# Altium footprint library IR-Sensor.PcbLib: 24 footprints (part 1 of 2)
Each footprint in its own frame and in the unit in brackets; x right, y up, seen from the top. Pads: shape width x height; smd on the part's side, far side on the other; paste and mask are expansions set on the pad; w line width, h text height; cw(c..) or ccw(c..) is an arc to the next point about the centre after c.
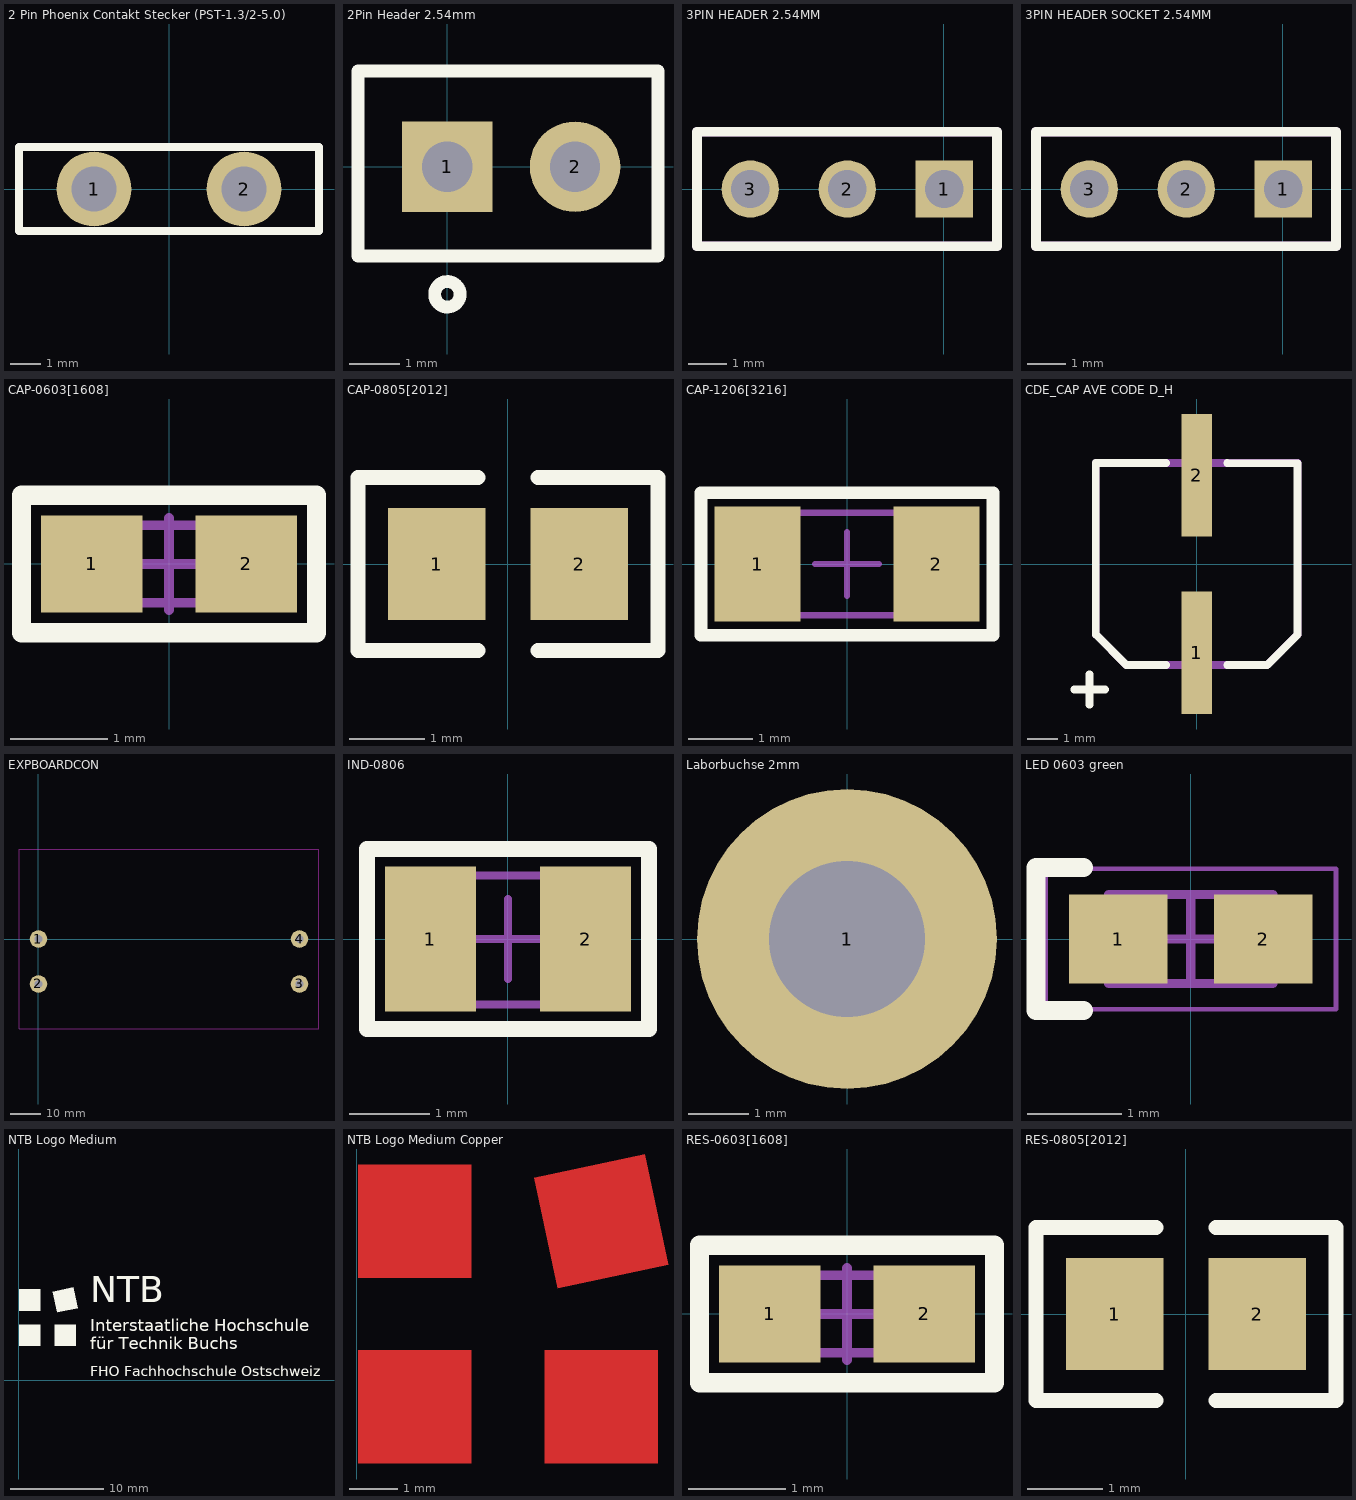
[diagram p0: the footprints below, top view; thin cyan lines are the x and y axes]

## 2 Pin Phoenix Contakt Stecker (PST-1.3/2-5.0) [mm]
pads (2):
  round 2.5 hole 1.5: 1(-2.5,0) 2(2.5,0)
Top Overlay:
  lines w0.254: -5,-1.4 -5,1.4 5,1.4 5,-1.4 -5,-1.4
3D body "1933189.stp": height 9.52, standoff -3.48, extent -5,-1.403 5,1.397
3D body "1805517.stp": height 12.12, standoff 0.42, extent -5.08,-10.591 4.92,2.209

## 2Pin Header 2.54mm [mm]
pads (2):
  rect 1.8x1.8 hole 1: 1(0,0)
  round 1.8 hole 1: 2(2.54,0)
Top Overlay:
  circle w0.254: c0,-2.54 r0.254
  lines w0.254: -1.778,-1.778 -1.778,1.905 4.191,1.905 4.191,-1.778 -1.778,-1.778
3D body "User Library-Header_Male_2Pin.STEP": height 8.54, standoff -3, extent -1.27,-1.245 3.81,1.245

## 3PIN HEADER 2.54MM [mm]
pads (3):
  rect 1.5x1.5 hole 1 paste-0.002 mask+0.07: 1(0.02,0)
  round 1.5 hole 1 paste-0.002 mask+0.07: 2(-2.52,0) 3(-5.06,0)
Top Overlay:
  lines w0.254: -6.457,-1.5 1.4,-1.5 1.4,1.5 -6.457,1.5 -6.457,-1.5
Mechanical 13:
  lines w0.254: -6.457,-1.5 1.4,-1.5 1.4,1.5 -6.457,1.5 -6.457,-1.5
3D body "HTSW-103-07-G-S.stp": height 8.38, standoff -2.54, extent -6.33,-1.244 1.29,1.245

## 3PIN HEADER SOCKET 2.54MM [mm]
pads (3):
  rect 1.5x1.5 hole 1 paste-0.002 mask+0.07: 1(0.02,0)
  round 1.5 hole 1 paste-0.002 mask+0.07: 2(-2.52,0) 3(-5.06,0)
Top Overlay:
  lines w0.254: -6.457,-1.5 -6.457,1.5 1.4,1.5 1.4,-1.5 -6.457,-1.5
Mechanical 13:
  lines w0.254: -6.457,-1.5 -6.457,1.5 1.4,1.5 1.4,-1.5 -6.457,-1.5
3D body "3Pin Buchsenleiste.stp": height 3.8, standoff -3.57, extent -6.33,-1.27 1.29,1.27

## CAP-0603[1608] [mm]
pads (2):
  rect 1.05x1 smd: 1(-0.8,0) 2(0.8,0)
Top Overlay:
  lines w0.2: -1.524,-0.711 1.524,-0.711 1.524,0.711 -1.524,0.711 -1.524,-0.711
Mechanical 13:
  lines w0.1: -0.8,-0.4 0.8,-0.4 0.8,0.4 -0.8,0.4 -0.8,-0.4
Mechanical 15:
  lines w0.05: -1.55,-0.75 1.55,-0.75 1.55,0.75 -1.55,0.75 -1.55,-0.75
  lines w0.1: -0.475,0 0.475,0 ; 0,-0.475 0,0.475
3D body "CAPC1608X95N EIA 0603.step": height 0.95, standoff 0, extent -0.8,-0.4 0.8,0.4

## CAP-0805[2012] [mm]
pads (2):
  rect 1.3x1.5 smd: 1(-0.95,0) 2(0.95,0)
Top Overlay:
  lines w0.2: -0.4,-1.15 -2,-1.15 -2,1.15 -0.4,1.15 ; 0.4,-1.15 2,-1.15 2,1.15 0.4,1.15
3D body "CAP0805.step": height 0.6, standoff 0, extent -1,-0.625 1,0.625

## CAP-1206[3216] [mm]
pads (2):
  rect 1.35x1.8 smd: 1(-1.4,0) 2(1.4,0)
Top Overlay:
  lines w0.2: -2.286,-1.118 2.286,-1.118 2.286,1.118 -2.286,1.118 -2.286,-1.118
Mechanical 13:
  lines w0.1: -1.6,-0.8 1.6,-0.8 1.6,0.8 -1.6,0.8 -1.6,-0.8
Mechanical 15:
  lines w0.05: -2.35,-1.15 2.35,-1.15 2.35,1.15 -2.35,1.15 -2.35,-1.15
  lines w0.1: -0.5,0 0.5,0 ; 0,-0.5 0,0.5
3D body "CAPC3216X180N EIA 1206.step": height 1.8, standoff 0, extent -1.6,-0.8 1.6,0.8

## CDE_CAP AVE CODE D_H [mm]
pads (2):
  rect 1x4 smd paste-0.002 mask+0.07: 1(0,-2.9) 2(0,2.9)
Top Overlay:
  lines w0.254: -4,-4.1 -3,-4.1 ; -3.5,-4.6 -3.5,-4.35 -3.5,-3.85 -3.5,-3.6 ; -1,-3.3 -2.3,-3.3 -3.3,-2.3 -3.3,3.3 -1,3.3 ; 1,-3.3 2.3,-3.3 3.293,-2.307 3.293,3.293 1.007,3.293 1,3.3
Mechanical 13:
  lines w0.254: -3.3,-2.3 -2.3,-3.3 0,-3.3 2.3,-3.3 3.3,-2.3 3.3,3.3 -3.3,3.3 -3.3,-2.3
3D body "User Library-ALU-D.STEP": height -1, standoff -6.4, extent -3.306,-3.5 3.293,3.5

## EXPBOARDCON [mm]
pads (4):
  round 5.842 hole 2.6: 1(0,0) 2(0,-15) 3(87,-15) 4(87,0)
Keep-Out Layer:
  lines w0.254: -6.5,-30 93.5,-30 93.5,30 -6.5,30 -6.5,-30

## IND-0806 [mm]
pads (2):
  rect 1.13x1.8 smd: 1(-0.965,0) 2(0.965,0)
Top Overlay:
  lines w0.2: -1.753,-1.118 -1.753,1.118 1.753,1.118 1.753,-1.118 -1.753,-1.118
Mechanical 13:
  lines w0.1: -1.016,-0.813 -1.016,0.787 1,0.787 1,-0.813 -1.016,-0.813
Mechanical 15:
  lines w0.05: -1.8,-1.15 -1.8,1.15 1.8,1.15 1.8,-1.15 -1.8,-1.15
  lines w0.1: -0.5,0 0.5,0 ; 0,-0.5 0,0.5
3D body "User Library-Chip Inductor (4).STEP": height 1, standoff 0, extent -1,-0.8 1,0.8

## Laborbuchse 2mm [mm]
pads (1):
  round 5 hole 2.6: 1(0,0)
Top Overlay:
  circle w0.254: c0,0 r2
3D body "cak2-470-2_0_0_5.STEP": height 0.5, standoff -3.87, extent -2.013,-2.007 2,2.007

## LED 0603 green [mm]
pads (2):
  rect 1.05x0.95 smd: 1(-0.775,0) 2(0.775,0)
Top Overlay:
  lines w0.2: -1.143,-0.762 -1.651,-0.762 -1.651,0.762 -1.143,0.762
Mechanical 13:
  lines w0.1: -0.875,-0.475 0.875,-0.475 0.875,0.475 -0.875,0.475 -0.875,-0.475
Mechanical 15:
  lines w0.05: -1.55,-0.75 1.55,-0.75 1.55,0.75 -1.55,0.75 -1.55,-0.75
  lines w0.1: -0.475,0 0.475,0 ; 0,-0.475 0,0.475
3D body "User Library-led_0603 (2).step": height 0.6, standoff 0, extent -0.81,-0.4 0.81,0.4

## NTB Logo Medium [mm]
Top Overlay:
  rectangle: 0.023,7.458 2.348,9.783
  rectangle: 0.023,3.658 2.348,5.983
  rectangle: 3.848,3.658 6.173,5.983
  region: 4.115,7.242 6.389,7.725 5.905,9.999 3.632,9.516
  rectangle: 0.023,7.458 2.348,9.783
  rectangle: 0.023,3.658 2.348,5.983
  rectangle: 3.848,3.658 6.173,5.983
  region: 4.115,7.242 6.389,7.725 5.905,9.999 3.632,9.516
  text "NTB" at 7.698,7.433 h4.87
  text "FHO Fachhochschule Ostschweiz" at 7.702,0.039 h1.88
  text "für Technik Buchs" at 7.702,2.904 h2.25
  text "Interstaatliche Hochschule" at 7.698,4.802 h2.25
  text "NTB" at 7.698,7.433 h4.87
  text "FHO Fachhochschule Ostschweiz" at 7.702,0.039 h1.88
  text "für Technik Buchs" at 7.702,2.904 h2.25
  text "Interstaatliche Hochschule" at 7.698,4.802 h2.25

## NTB Logo Medium Copper [mm]
Top Layer:
  rectangle: 0.023,7.458 2.348,9.783
  rectangle: 0.023,3.658 2.348,5.983
  rectangle: 3.848,3.658 6.173,5.983
  region: 4.115,7.242 6.389,7.725 5.905,9.999 3.632,9.516
  text "NTB" at 7.698,7.433 h4.87
  text "FHO Fachhochschule Ostschweiz" at 7.702,0.039 h1.88
  text "für Technik Buchs" at 7.702,2.904 h2.25
  text "Interstaatliche Hochschule" at 7.698,4.802 h2.25
Top Solder:
  rectangle: 0.023,7.458 2.348,9.783
  rectangle: 0.023,3.658 2.348,5.983
  rectangle: 3.848,3.658 6.173,5.983
  region: 4.115,7.242 6.389,7.725 5.905,9.999 3.632,9.516
  text "NTB" at 7.698,7.433 h4.87
  text "FHO Fachhochschule Ostschweiz" at 7.702,0.039 h1.88
  text "für Technik Buchs" at 7.702,2.904 h2.25
  text "Interstaatliche Hochschule" at 7.698,4.802 h2.25

## RES-0603[1608] [mm]
pads (2):
  rect 1.05x1 smd: 1(-0.8,0) 2(0.8,0)
Top Overlay:
  lines w0.2: -1.524,-0.711 1.524,-0.711 1.524,0.711 -1.524,0.711 -1.524,-0.711
Mechanical 13:
  lines w0.1: -0.8,-0.4 -0.8,0.4 0.8,0.4 0.8,-0.4 -0.8,-0.4
Mechanical 15:
  lines w0.05: -1.55,-0.75 -1.55,0.75 1.55,0.75 1.55,-0.75 -1.55,-0.75
  lines w0.1: -0.475,0 0.475,0 ; 0,-0.475 0,0.475
3D body "RESC0603.step": height 0.5, standoff 0, extent -0.8,-0.4 0.8,0.4

## RES-0805[2012] [mm]
pads (2):
  rect 1.3x1.5 smd: 1(-0.95,0) 2(0.95,0)
Top Overlay:
  lines w0.2: -0.4,-1.15 -2,-1.15 -2,1.15 -0.4,1.15 ; 0.4,-1.15 2,-1.15 2,1.15 0.4,1.15
3D body "RES0805.step": height 0.6, standoff 0, extent -1,-0.625 1,0.625